# Altium footprint library Misc.PcbLib: 21 footprints (part 1 of 2)
Each footprint in its own frame and in the unit in brackets; x right, y up, seen from the top. Pads: shape width x height; smd on the part's side, far side on the other; paste and mask are expansions set on the pad; w line width, h text height; cw(c..) or ccw(c..) is an arc to the next point about the centre after c.
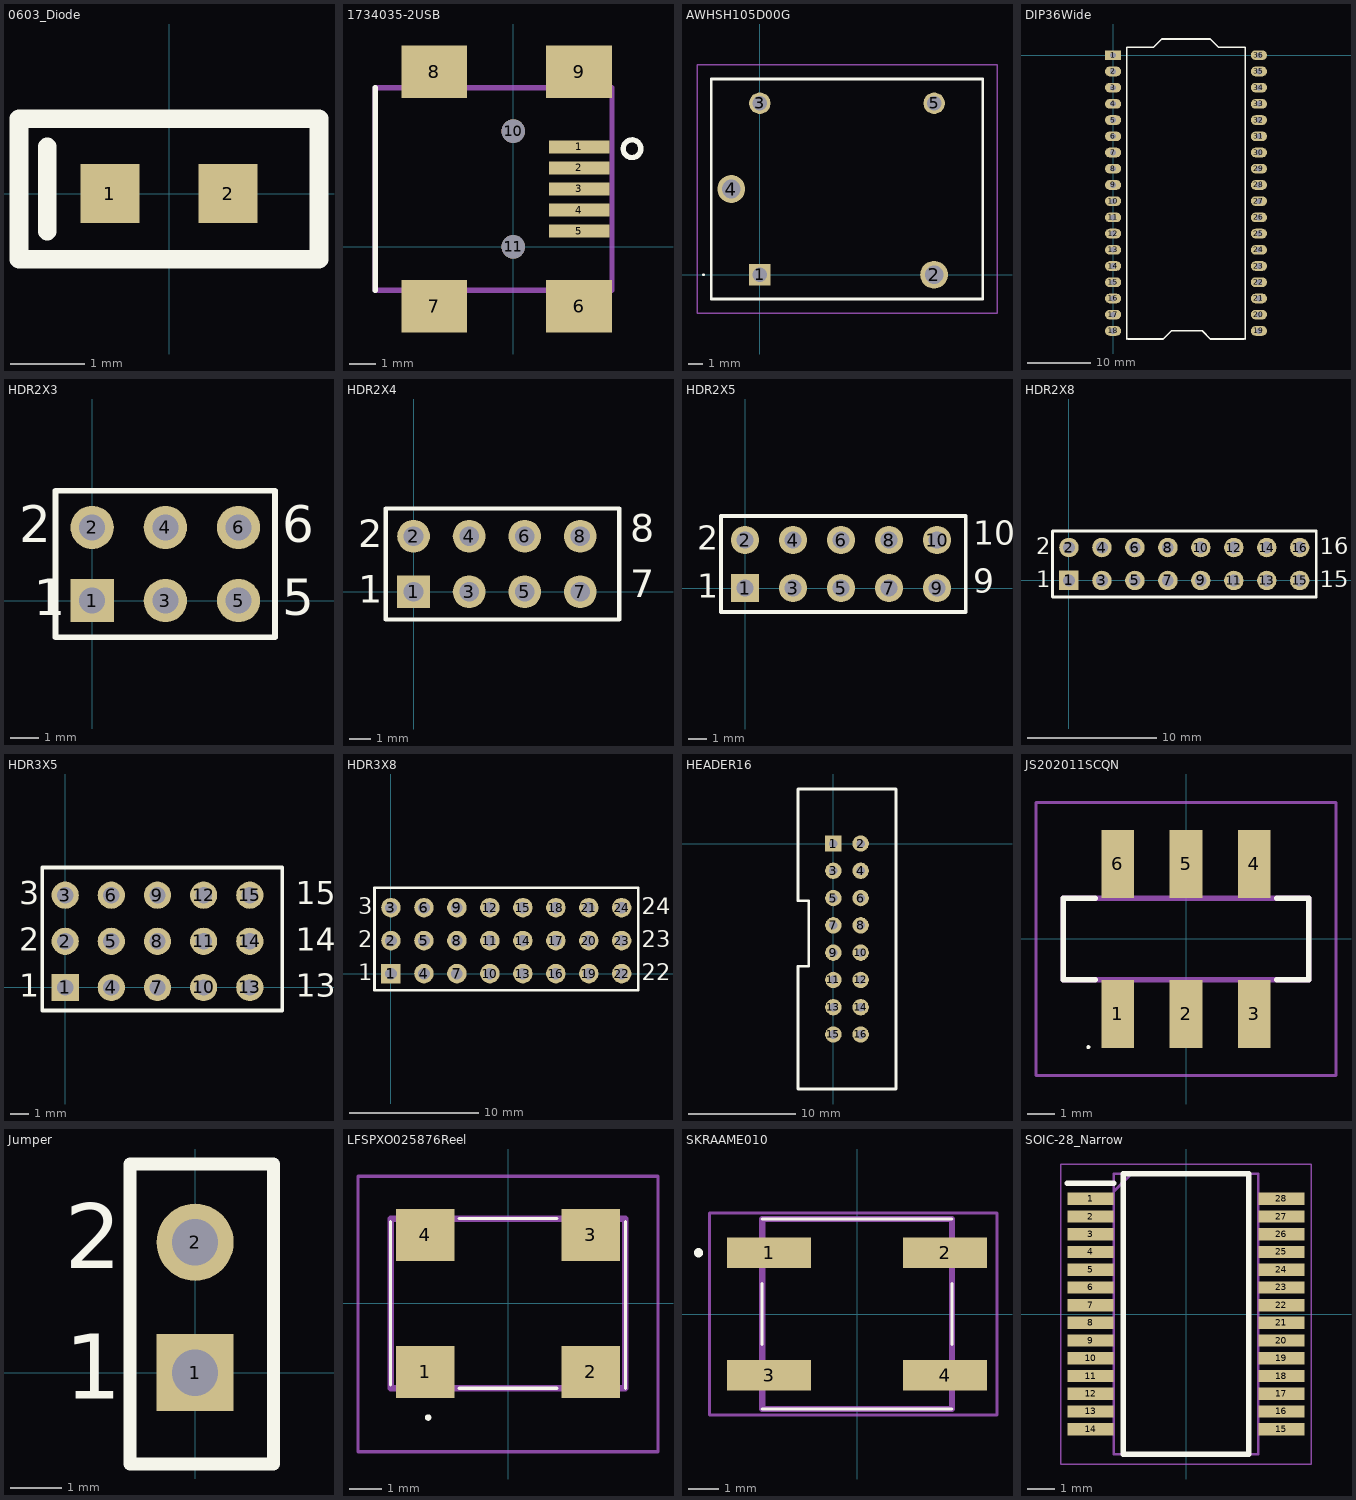
[diagram p0: the footprints below, top view; thin cyan lines are the x and y axes]

## 0603_Diode [mm]
pads (2):
  rect 0.8x0.8 smd: 1(-0.8,0) 2(0.8,0)
Top Overlay:
  lines w0.254: -1.651,-0.508 -1.651,0.635 ; -2.032,-0.889 2.032,-0.889 2.032,1.016 -2.032,1.016 -2.032,-0.889

## 1734035-2USB [mm]
pads (11):
  rect 2.3x0.5 smd: 1(2.5,3.8) 2(2.5,3) 3(2.5,2.2) 4(2.5,1.4) 5(2.5,0.6)
  rect 2.5x2 smd: 6(2.5,-2.25) 7(-3,-2.25) 8(-3,6.65) 9(2.5,6.65)
  round 0.9 hole 0.9 unplated: 10(0,4.4) 11(0,0)
Top Overlay:
  circle w0.2: c4.512,3.731 r0.336
  lines w0.2: -5.25,-1.65 -5.25,6.05
Mechanical 13:
  lines w0.2: -5.25,-1.65 3.75,-1.65 3.75,6.05 -5.25,6.05 -5.25,-1.65
3D body "1734035-4.stp": height 4.17, standoff -0.92, extent -6.35,-2.791 2.85,7.109

## AWHSH105D00G [mm]
pads (5):
  rect 1.5x1.5 hole 1: 1(0,0)
  round 1.95 hole 1.3: 2(12.2,0) 4(-2,6)
  round 1.5 hole 1: 3(0,12) 5(12.2,12)
Top Overlay:
  lines w0.1: -4,0 ccw(c-3.95,0) -3.9,0 ccw(c-3.95,0) -4,0
  lines w0.2: -3.4,-1.7 15.6,-1.7 15.6,13.7 -3.4,13.7 -3.4,-1.7
Mechanical 15:
  lines w0.1: -3.4,-1.7 15.6,-1.7 15.6,13.7 -3.4,13.7 -3.4,-1.7
Mechanical 20:
  lines w0.1: -4.4,-2.7 16.6,-2.7 16.6,14.7 -4.4,14.7 -4.4,-2.7
3D body "AWHSH105D00G.stp": height 15.4, standoff -5, extent -3.4,-1.7 15.6,13.7

## DIP36Wide [mm]
pads (36):
  rect 2.54x1.524 hole 0.9: 1(0,0)
  oval 2.54x1.524 hole 0.9: 2(0,-2.54) 3(0,-5.08) 4(0,-7.62) 5(0,-10.16) 6(0,-12.7) 7(0,-15.24) 8(0,-17.78) 9(0,-20.32) 10(0,-22.86) 11(0,-25.4) 12(0,-27.94) 13(0,-30.48) 14(0,-33.02) 15(0,-35.56) 16(0,-38.1) 17(0,-40.64) 18(0,-43.18) 19(22.86,-43.18) 20(22.86,-40.64) 21(22.86,-38.1) 22(22.86,-35.56) 23(22.86,-33.02) 24(22.86,-30.48) 25(22.86,-27.94) 26(22.86,-25.4) 27(22.86,-22.86) 28(22.86,-20.32) 29(22.86,-17.78) 30(22.86,-15.24) 31(22.86,-12.7) 32(22.86,-10.16) 33(22.86,-7.62) 34(22.86,-5.08) 35(22.86,-2.54) 36(22.86,0)
Top Overlay:
  lines w0.254: 2.159,-44.45 2.159,1.27 6.35,1.27 7.62,2.54 15.24,2.54 16.51,1.27 20.701,1.27 20.701,-44.45 ; 2.286,-44.45 7.874,-44.45 9.144,-43.18 13.97,-43.18 15.24,-44.45 20.574,-44.45
3D body "HTIT_WB_32.stp": height 5, standoff 0, extent -1.243,-46.055 24.257,4.145

## HDR2X3 [mm] "Connector; Header; 3x2 Position"
pads (6):
  rect 1.5x1.5 hole 0.9: 1(0,0)
  round 1.5 hole 0.9: 2(0,2.54) 3(2.54,0) 4(2.54,2.54) 5(5.08,0) 6(5.08,2.54)
Top Overlay:
  lines w0.2: 1.482,-1.27 6.35,-1.27 ; 6.35,-1.27 -1.27,-1.27 -1.27,3.81 6.35,3.81 6.35,-1.27
  text "1" at -2.032,-0.508 h1.27
  text "2" at -2.54,2.032 h1.27
  text "5" at 6.604,-0.508 h1.27
  text "6" at 6.604,2.032 h1.27

## HDR2X4 [mm] "Connector; Header; 4x2 Position"
pads (8):
  rect 1.5x1.5 hole 0.9: 1(0,0)
  round 1.5 hole 0.9: 2(0,2.54) 3(2.54,0) 4(2.54,2.54) 5(5.08,0) 6(5.08,2.54) 7(7.62,0) 8(7.62,2.54)
Top Overlay:
  lines w0.2: -1.27,-1.27 9.398,-1.27 9.398,3.81 -1.27,3.81 -1.27,-1.27
  text "8" at 9.906,2.286 h1.27
  text "7" at 9.906,-0.254 h1.27
  text "1" at -2.54,-0.508 h1.27
  text "2" at -2.54,2.032 h1.27

## HDR2X5 [mm] "Connector; Header; 5x2 Position"
pads (10):
  rect 1.5x1.5 hole 0.9: 1(0,0)
  round 1.5 hole 0.9: 2(0,2.54) 3(2.54,0) 4(2.54,2.54) 5(5.08,0) 6(5.08,2.54) 7(7.62,0) 8(7.62,2.54) 9(10.16,0) 10(10.16,2.54)
Top Overlay:
  lines w0.2: -1.27,-1.27 11.684,-1.27 11.684,3.81 -1.27,3.81 -1.27,-1.27
  text "10" at 12.065,2.286 h1.27
  text "9" at 12.065,-0.254 h1.27
  text "1" at -2.54,-0.508 h1.27
  text "2" at -2.54,2.032 h1.27

## HDR2X8 [mm] "Connector; Header; 8x2 Position"
pads (16):
  rect 1.5x1.5 hole 0.9: 1(0,0)
  round 1.5 hole 0.9: 2(0,2.54) 3(2.54,0) 4(2.54,2.54) 5(5.08,0) 6(5.08,2.54) 7(7.62,0) 8(7.62,2.54) 9(10.16,0) 10(10.16,2.54) 11(12.7,0) 12(12.7,2.54) 13(15.24,0) 14(15.24,2.54) 15(17.78,0) 16(17.78,2.54)
Top Overlay:
  lines w0.2: -1.27,-1.27 19.05,-1.27 19.05,3.81 -1.27,3.81 -1.27,-1.27
  text "16" at 19.304,2.032 h1.27
  text "15" at 19.304,-0.508 h1.27
  text "1" at -2.54,-0.508 h1.27
  text "2" at -2.54,2.032 h1.27

## HDR3X5 [mm] "Connector; Header; 8x2 Position"
pads (15):
  rect 1.5x1.5 hole 0.9: 1(0,0)
  round 1.5 hole 0.9: 2(0,2.54) 3(0,5.08) 4(2.54,0) 5(2.54,2.54) 6(2.54,5.08) 7(5.08,0) 8(5.08,2.54) 9(5.08,5.08) 10(7.62,0) 11(7.62,2.54) 12(7.62,5.08) 13(10.16,0) 14(10.16,2.54) 15(10.16,5.08)
Top Overlay:
  lines w0.2: -1.27,-1.27 -1.27,6.604 11.938,6.604 11.938,-1.27 -1.27,-1.27
  text "2" at -2.54,2.032 h1.27
  text "1" at -2.54,-0.508 h1.27
  text "13" at 12.7,-0.508 h1.27
  text "14" at 12.7,2.032 h1.27
  text "3" at -2.54,4.572 h1.27
  text "15" at 12.7,4.572 h1.27

## HDR3X8 [mm] "Connector; Header; 8x2 Position"
pads (24):
  rect 1.5x1.5 hole 0.9: 1(0,0)
  round 1.5 hole 0.9: 2(0,2.54) 3(0,5.08) 4(2.54,0) 5(2.54,2.54) 6(2.54,5.08) 7(5.08,0) 8(5.08,2.54) 9(5.08,5.08) 10(7.62,0) 11(7.62,2.54) 12(7.62,5.08) 13(10.16,0) 14(10.16,2.54) 15(10.16,5.08) 16(12.7,0) 17(12.7,2.54) 18(12.7,5.08) 19(15.24,0) 20(15.24,2.54) 21(15.24,5.08) 22(17.78,0) 23(17.78,2.54) 24(17.78,5.08)
Top Overlay:
  lines w0.2: -1.27,-1.27 19.05,-1.27 19.05,6.604 -1.27,6.604 -1.27,-1.27
  text "24" at 19.304,4.572 h1.27
  text "3" at -2.54,4.572 h1.27
  text "23" at 19.304,2.032 h1.27
  text "22" at 19.304,-0.508 h1.27
  text "1" at -2.54,-0.508 h1.27
  text "2" at -2.54,2.032 h1.27

## HEADER16 [mil]
pads (16):
  rect 60x60 hole 31.5: 1(0,0)
  round 60 hole 31.5: 2(100,0) 3(0,-100) 4(100,-100) 5(0,-200) 6(100,-200) 7(0,-300) 8(100,-300) 9(0,-400) 10(100,-400) 11(0,-500) 12(100,-500) 13(0,-600) 14(100,-600) 15(0,-700) 16(100,-700)
Top Overlay:
  lines w10: -130,-900 230,-900 230,200 -130,200 -130,-210 -90,-210 -90,-250 -90,-450 -130,-450 -130,-900
3D body "70246-1604.stp": height 359.96, standoff -140, extent -125,-900 225,200

## JS202011SCQN [mm]
pads (6):
  rect 1.2x2.5 smd: 1(-2.5,-2.75) 2(0,-2.75) 3(2.5,-2.75) 4(2.5,2.75) 5(0,2.75) 6(-2.5,2.75)
Top Overlay:
  lines w0.072: -3.614,-3.968 ccw(c-3.578,-3.968) -3.542,-3.968 ccw(c-3.578,-3.968) -3.614,-3.968
  lines w0.2: -3.323,-1.5 -4.5,-1.5 -4.5,1.5 -3.323,1.5 ; 3.323,-1.5 4.5,-1.5 4.5,1.5 3.323,1.5
Mechanical 15:
  lines w0.2: -4.5,-1.5 4.5,-1.5 4.5,1.5 -4.5,1.5 -4.5,-1.5
Mechanical 20:
  lines w0.1: -5.5,-5.004 5.5,-5.004 5.5,5 -5.5,5 -5.5,-5.004
3D body "JS202011SCQN.stp": height 5.65, standoff -0.2, extent -4.5,-3.5 4.5,3.5

## Jumper [mm] "Connector; Header; 8x2 Position"
pads (2):
  rect 1.5x1.5 hole 0.9: 1(0,0)
  round 1.5 hole 0.9: 2(0,2.54)
Top Overlay:
  lines w0.254: -1.27,-1.778 -1.27,4.064 1.524,4.064 1.524,-1.778 -1.27,-1.778
  text "1" at -2.54,-0.508 h1.27
  text "2" at -2.54,2.032 h1.27

## LFSPXO025876Reel [mm]
pads (4):
  rect 1.8x1.6 smd: 1(-2.54,-2.1) 2(2.54,-2.1) 3(2.54,2.1) 4(-2.54,2.1)
Top Overlay:
  lines w0.1: -3.6,-2.5 -3.6,2.5 ; -1.5,-2.6 1.5,-2.6 ; -1.5,2.6 1.5,2.6 ; 3.6,-2.6 3.6,2.5 ; -2.5,-3.5 ccw(c-2.45,-3.5) -2.4,-3.5 ccw(c-2.45,-3.5) -2.5,-3.5
Mechanical 15:
  lines w0.2: -3.6,-2.6 3.6,-2.6 3.6,2.6 -3.6,2.6 -3.6,-2.6
Mechanical 20:
  lines w0.1: -4.6,-4.55 4.6,-4.55 4.6,3.9 -4.6,3.9 -4.6,-4.55
3D body "LFSPXO025876Reel.stp": height 1.5, standoff 0, extent -3.6,-2.74 3.6,2.74

## SKRAAME010 [mm]
pads (4):
  rect 2.75x1 smd: 1(-2.875,2) 2(2.875,2) 3(-2.875,-2) 4(2.875,-2)
Top Overlay:
  lines w0.1: -3.1,-3.1 3.1,-3.1 -3.1,-3.1 ; -3.1,-1 -3.1,1 -3.1,-1 ; -3.1,3.1 3.1,3.1 -3.1,3.1 ; 3.1,-1 3.1,1 3.1,-1
  lines w0.2: -5.23,2 ccw(c-5.18,2) -5.13,2 ; -5.23,2 cw(c-5.18,2) -5.13,2 ; -5.23,2 ccw(c-5.18,2) -5.13,2
Mechanical 15:
  lines w0.2: -3.1,-3.1 3.1,-3.1 3.1,3.1 -3.1,3.1 -3.1,-3.1
Mechanical 20:
  lines w0.1: -4.826,-3.302 -4.826,3.302 4.572,3.302 4.572,-3.302 -4.826,-3.302
3D body "SKRAAME010.stp": height 5.4, standoff 0, extent -4.15,-3.1 4.15,3.1

## SOIC-28_Narrow [mm]
pads (28):
  rect 1.7x0.45 smd: 1(-3.5,4.225) 2(-3.5,3.575) 3(-3.5,2.925) 4(-3.5,2.275) 5(-3.5,1.625) 6(-3.5,0.975) 7(-3.5,0.325) 8(-3.5,-0.325) 9(-3.5,-0.975) 10(-3.5,-1.625) 11(-3.5,-2.275) 12(-3.5,-2.925) 13(-3.5,-3.575) 14(-3.5,-4.225) 15(3.5,-4.225) 16(3.5,-3.575) 17(3.5,-2.925) 18(3.5,-2.275) 19(3.5,-1.625) 20(3.5,-0.975) 21(3.5,-0.325) 22(3.5,0.325) 23(3.5,0.975) 24(3.5,1.625) 25(3.5,2.275) 26(3.5,2.925) 27(3.5,3.575) 28(3.5,4.225)
Top Overlay:
  lines w0.2: -4.35,4.8 -2.65,4.8 ; -2.3,-5.138 -2.3,5.138 2.3,5.138 2.3,-5.138 -2.3,-5.138
Mechanical 13:
  lines w0.1: -2.65,4.488 -2,5.138 ; -2.65,-5.138 -2.65,5.138 2.65,5.138 2.65,-5.138 -2.65,-5.138
Mechanical 15:
  lines w0.05: -4.6,-5.5 -4.6,5.5 4.6,5.5 4.6,-5.5 -4.6,-5.5
3D body "FT232RL-REEL.stp": height 2, standoff 0, extent -3.888,-5.138 3.888,5.138